# Altium schematic symbol library diode.SchLib: 1 symbol
Pins are listed as number, name and electrical type; pins without a type are passive.

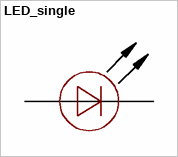
[diagram p0: symbol LED_single]

## LED_single
designator ?
ValueManufacturerPartNumber: LED, Green, *, *, *, -55...+150°C; TypeDiode: LED; ColorParameter: Green; Manufacturer: *; Package: *; HelpURL: *; Temperature: -55...+150°C; Current: *; VoltageDrop: *; PartNumber: *; Color: GREEN
footprint LED: 0402B
footprint LED: 0402G
footprint LED: 0402O
footprint LED: 0402R
footprint LED: 0402Y
footprint LED: 0603B
footprint LED: 0603G
footprint LED: 0603R
footprint LED: 0603Y
footprint LED: 0805B
footprint LED: 0805G
footprint LED: 0805R
footprint LED: 0805Y
footprint LED: 1206B
footprint LED: 1206G
footprint LED: 1206R
footprint LED: 1206W
footprint LED: 1206Y
footprint LED: 5730
footprint LED: 6868
pins: 1 A, 2 C